# Altium schematic symbol library EHHD015A0A41-HZ.SchLib: 1 symbol
Pins are listed as number, name and electrical type; pins without a type are passive.

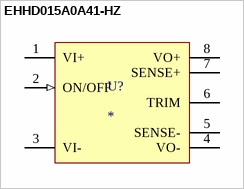
[diagram p0: symbol EHHD015A0A41-HZ]

## EHHD015A0A41-HZ
designator U?
GE CRITICAL POWER - EHHD015A0A41-HZ - DC DC 5V 15A 1/8 BRICK & HEAT PLATE; farnell: 2076851
footprint EHHD015A0A41-HZ (GE CRITICAL POWER - EHHD015A0A41-HZ - DC DC 5V 15A 1/8 BRICK & HEAT PLATE)
pins: 1 VI+ (power), 2 ON/OFF (in), 3 VI- (power), 4 VO- (power), 5 SENSE-, 6 TRIM, 7 SENSE+, 8 VO+ (power)